# EAGLE library part CY7C65211-24 (library PatternAgents-Cypress)
Cypress EZ-USB ® CY7C65211-24QFN USB TO UART/SPI/I2C Bridge Full-Speed USB Peripheral Controller Source Data: http://www.cypress.com/?mpn=CY7C65211-24QFN LBR Source: http://www.patternagents.com THIS SOFTWARE IS PROVIDED BY THE CONTRIBUTORS "AS IS" AND WITHOUT ANY EXPRESS OR IMPLIED WARRANTIES, INCLUDING, BUT NOT LIMITED TO, THE IMPLIED WARRANTIES OF MERCHANTABILITY AND FITNESS FOR A PARTICULAR PURPOSE ARE DISCLAIMED. IN NO EVENT SHALL THE COPYRIGHT OWNER OR CONTRIBUTORS BE LIABLE FOR ANY DIRECT, INDIRECT, INCIDENTAL, SPECIAL, EXEMPLARY, OR CONSEQUENTIAL DAMAGES (INCLUDING, BUT NOT LIMITED TO, PROCUREMENT OF SUBSTITUTE GOODS OR SERVICES; LOSS OF USE, DATA, OR PROFITS; OR BUSINESS INTERRUPTION) HOWEVER CAUSED AND ON ANY THEORY OF LIABILITY, WHETHER IN CONTRACT, STRICT LIABILITY, OR TORT (INCLUDING NEGLIGENCE OR OTHERWISE) ARISING IN ANY WAY OUT OF THE USE OF THIS SOFTWARE, EVEN IF ADVISED OF THE POSSIBILITY OF SUCH DAMAGE.
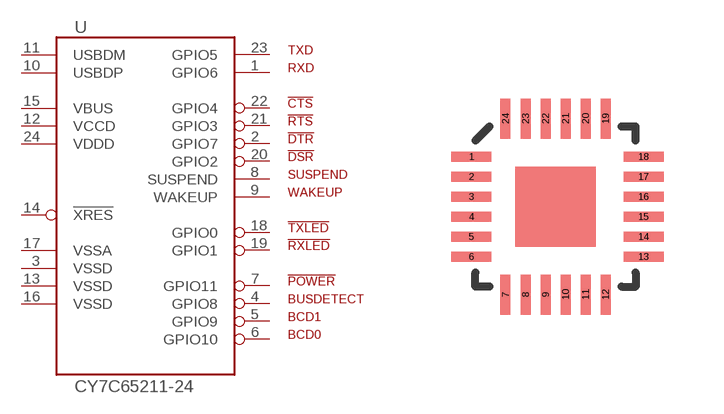
[diagram p23: symbol with the pads of QFN-24-SAWN; footprint QFN-24-SAWN]

Designator prefix -

## CY7C65211-24QFN  [QFN-24-SAWN]
1  GPIO6  in
2  GPIO7  out
3  VSSD  pwr
4  GPIO8  in
5  GPIO9  in
6  GPIO10  in
7  GPIO11  in
8  SUSPEND  in
9  WAKEUP  in
10  USBDP
11  USBDM
12  VCCD  out
13  VSSD  pwr
14  !XRES  in
15  VBUS  pwr
16  VSSD  pwr
17  VSSA  pwr
18  GPIO0  in
19  GPIO1  in
20  GPIO2  in
21  GPIO3  out
22  GPIO4  in
23  GPIO5  out
24  VDDD  pwr

## Footprint QFN-24-SAWN (pad centres in mm)
24-pin QFN 4 mm × 4 mm × 0.55 mm LQ24A 2.65 × 2.65 EPAD (Sawn) Document # 001-13937 *E For the CADSoft Eagle CAD program : http://www.cadsoftusa.com/download-eagle/ Source LBR : http://www.patternagents.com Github : https://github.com/PatternAgents License : http://creativecommons.org/licenses/by-sa/4.0/ (Creative Commons 4.0) THIS SOFTWARE IS PROVIDED BY THE CONTRIBUTORS "AS IS" AND WITHOUT ANY EXPRESS OR IMPLIED WARRANTIES, INCLUDING, BUT NOT LIMITED TO, THE IMPLIED WARRANTIES OF MERCHANTABILITY AND FITNESS FOR A PARTICULAR PURPOSE ARE DISCLAIMED. IN NO EVENT SHALL THE COPYRIGHT OWNER OR CONTRIBUTORS BE LIABLE FOR ANY DIRECT, INDIRECT, INCIDENTAL, SPECIAL, EXEMPLARY, OR CONSEQUENTIAL DAMAGES (INCLUDING, BUT NOT LIMITED TO, PROCUREMENT OF SUBSTITUTE GOODS OR SERVICES; LOSS OF USE, DATA, OR PROFITS; OR BUSINESS INTERRUPTION) HOWEVER CAUSED AND ON ANY THEORY OF LIABILITY, WHETHER IN CONTRACT, STRICT LIABILITY, OR TORT (INCLUDING NEGLIGENCE OR OTHERWISE) ARISING IN ANY WAY OUT OF THE USE OF THIS SOFTWARE, EVEN IF ADVISED OF THE POSSIBILITY OF SUCH DAMAGE.
smd 1 x 0.25: 1 -2.1,1.25; 2 -2.1,0.75; 3 -2.1,0.25; 4 -2.1,-0.25; 5 -2.1,-0.75; 6 -2.1,-1.25; 13 2.2,-1.25; 14 2.2,-0.75; 15 2.2,-0.25; 16 2.2,0.25; 17 2.2,0.75; 18 2.2,1.25
smd 0.25 x 1: 7 -1.25,-2.2; 8 -0.75,-2.2; 9 -0.25,-2.2; 10 0.25,-2.2; 11 0.75,-2.2; 12 1.25,-2.2; 19 1.25,2.2; 20 0.75,2.2; 21 0.25,2.2; 22 -0.25,2.2; 23 -0.75,2.2; 24 -1.25,2.2